# EAGLE library part HIH-6131 (library Pinoccio)
Honeywell - Humidity/Temperature Sensors
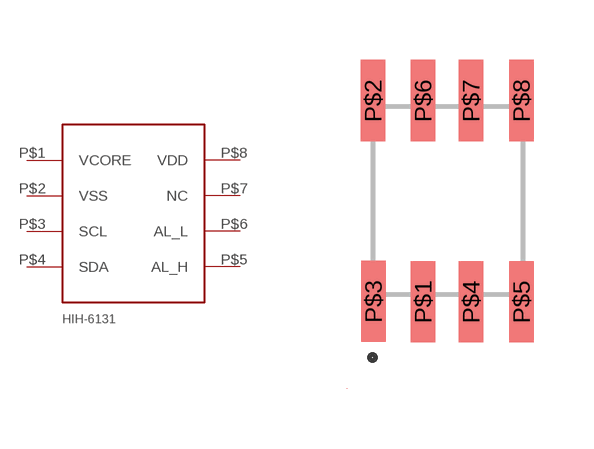
[diagram p26: symbol with the pads of HIH-6131; footprint HIH-6131]

Designator prefix -

## HIH-6131  [HIH-6131]
P$1  VCORE  pwr
P$2  VSS  pwr
P$3  SCL  in
P$4  SDA  in
P$5  AL_H  out
P$6  AL_L  out
P$7  NC  nc
P$8  VDD  pwr

## Footprint HIH-6131 (pad centres in mm)
Honeywell - Humidity/Temperature Sensors
smd 0.61 x 2.03: P$1 1.66,1.116; P$2 0.41,6.146; P$3 0.42,1.126; P$4 2.86,1.116; P$5 4.12,1.116; P$6 1.66,6.146; P$7 2.86,6.146; P$8 4.12,6.146